# EAGLE library part PIC16F688 (library SparkFun-Retired)
PIC 16F68 8-Bit PIC16F88 RETIRED: IC-07818
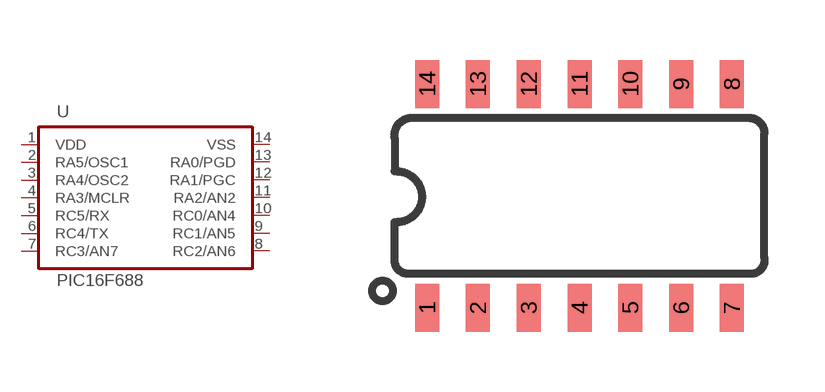
[diagram p103: symbol with the pads of SO14_MCU; footprint SO14_MCU]

Designator prefix -

## PIC16F688SMD  [SO14_MCU]
1  VDD  pwr
2  RA5/OSC1
3  RA4/OSC2
4  RA3/MCLR
5  RC5/RX
6  RC4/TX
7  RC3/AN7
8  RC2/AN6
9  RC1/AN5
10  RC0/AN4
11  RA2/AN2
12  RA1/PGC
13  RA0/PGD
14  VSS  pwr

## Footprint SO14_MCU (pad centres in mm)
SOIC, 0.15 inch width
smd 0.6 x 1.2: 1 -3.175,-2.8; 2 -1.905,-2.8; 3 -0.635,-2.8; 4 0.635,-2.8; 5 1.905,-2.8; 6 3.175,-2.8; 7 4.445,-2.8; 8 4.445,2.8; 9 3.175,2.8; 10 1.905,2.8; 11 0.635,2.8; 12 -0.635,2.8; 13 -1.905,2.8; 14 -3.175,2.8